# EAGLE library part 18500_CLIP_HOLDER_1_CELL (library nathans-custom-parts)
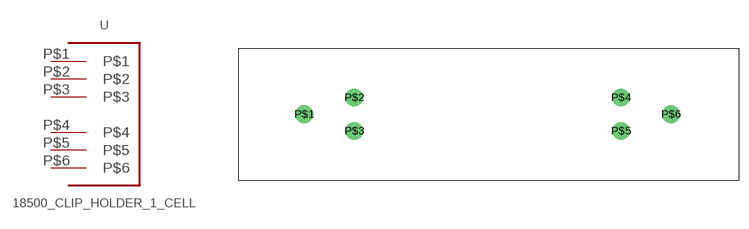
[diagram p6: symbol with the pads of 3PINBATTERY_CLIP_1_CELL; footprint 3PINBATTERY_CLIP_1_CELL]

Designator prefix -

## 18500_CLIP_HOLDER_1_CELL  [3PINBATTERY_CLIP_1_CELL]
P$1  P$1
P$2  P$2
P$3  P$3
P$4  P$4
P$5  P$5
P$6  P$6

## Footprint 3PINBATTERY_CLIP_1_CELL (pad centres in mm)
drill 1.8: P$1 0,0; P$2 7.62,2.54; P$3 7.62,-2.54; P$4 48.12,2.54; P$5 48.12,-2.54; P$6 55.74,0